# Altium integrated library Xilinx Virtex-II.IntLib: 158 symbols (part 48 of 59)
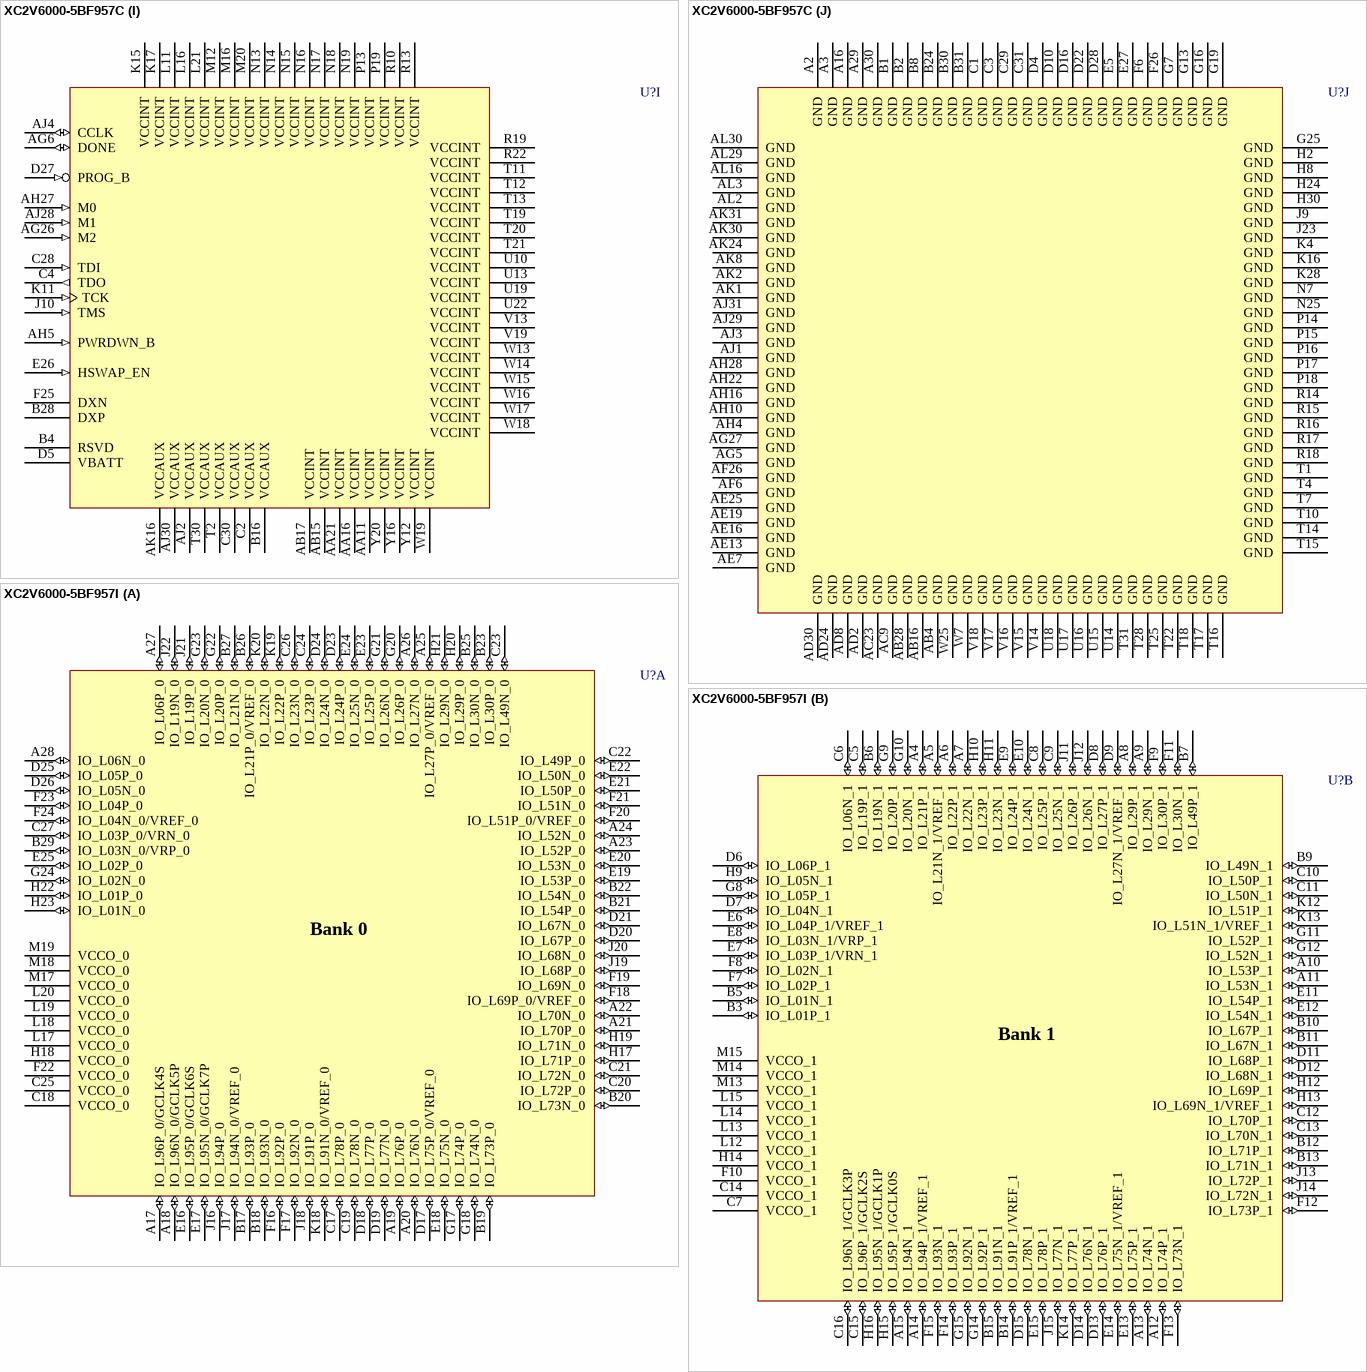
[diagram p446: symbols XC2V6000-5BF957C to XC2V6000-5BF957I]

## XC2V6000-5BF957C
designator U?
Virtex-II 1.5V FPGA, 957-Ball BGA, Commercial Grade; PackageDocument: ver1.0, Apr-2001; Published: 15-Apr-2002; DatasheetDocument: Mar-2004; PackageReference: BF957; Publisher: Altium Limited; Code_JEDEC: MS-034-BAU-1 (Depopulated)
footprint BF957 (957-Ball Plastic Flip-Chip Ball Grid Array (BF957))
3D model XC2V6000-BF957 (957-Ball Plastic Flip-Chip Ball Grid Array (BF957))
signal-integrity model XC2V6000_BF957 (Virtex-II)
part A pins: A17 IO_L96P_0/GCLK4S (io), A18 IO_L96N_0/GCLK5P (io), A19 IO_L76P_0 (io), A20 IO_L76N_0 (io), A21 IO_L70P_0 (io), A22 IO_L70N_0 (io), A23 IO_L52P_0 (io), A24 IO_L52N_0 (io), A25 IO_L27P_0/VREF_0 (io), A26 IO_L27N_0 (io), A27 IO_L06P_0 (io), A28 IO_L06N_0 (io), B17 IO_L93P_0 (io), B18 IO_L93N_0 (io), B19 IO_L73P_0 (io), B20 IO_L73N_0 (io), B21 IO_L54P_0 (io), B22 IO_L54N_0 (io), B23 IO_L30P_0 (io), B25 IO_L30N_0 (io), B26 IO_L21P_0/VREF_0 (io), B27 IO_L21N_0 (io), B29 IO_L03N_0/VRP_0 (io), C17 IO_L78P_0 (io), C18 VCCO_0 (power), C19 IO_L78N_0 (io), C20 IO_L72P_0 (io), C21 IO_L72N_0 (io), C22 IO_L49P_0 (io), C23 IO_L49N_0 (io), C24 IO_L23P_0 (io), C25 VCCO_0 (power), C26 IO_L23N_0 (io), C27 IO_L03P_0/VRN_0 (io), D17 IO_L75P_0/VREF_0 (io), D18 IO_L77P_0 (io), D19 IO_L77N_0 (io), D20 IO_L67P_0 (io), D21 IO_L67N_0 (io), D23 IO_L24P_0 (io), D24 IO_L24N_0 (io), D25 IO_L05P_0 (io), D26 IO_L05N_0 (io), E16 IO_L95P_0/GCLK6S (io), E17 IO_L95N_0/GCLK7P (io), E18 IO_L75N_0 (io), E19 IO_L53P_0 (io), E20 IO_L53N_0 (io), E21 IO_L50P_0 (io), E22 IO_L50N_0 (io), E23 IO_L25P_0 (io), E24 IO_L25N_0 (io), E25 IO_L02P_0 (io), F16 IO_L92P_0 (io), F17 IO_L92N_0 (io), F18 IO_L69P_0/VREF_0 (io), F19 IO_L69N_0 (io), F20 IO_L51P_0/VREF_0 (io), F21 IO_L51N_0 (io), F22 VCCO_0 (power), F23 IO_L04P_0 (io), F24 IO_L04N_0/VREF_0 (io), G17 IO_L74P_0 (io), G18 IO_L74N_0 (io), G20 IO_L26P_0 (io), G21 IO_L26N_0 (io), G22 IO_L20P_0 (io), G23 IO_L20N_0 (io), G24 IO_L02N_0 (io), H17 IO_L71P_0 (io), H18 VCCO_0 (power), H19 IO_L71N_0 (io), H20 IO_L29P_0 (io), H21 IO_L29N_0 (io), H22 IO_L01P_0 (io), H23 IO_L01N_0 (io), J16 IO_L94P_0 (io), J17 IO_L94N_0/VREF_0 (io), J18 IO_L91P_0 (io), J19 IO_L68P_0 (io), J20 IO_L68N_0 (io), J21 IO_L19P_0 (io), J22 IO_L19N_0 (io), K18 IO_L91N_0/VREF_0 (io), K19 IO_L22P_0 (io), K20 IO_L22N_0 (io), L17 VCCO_0 (power), L18 VCCO_0 (power), L19 VCCO_0 (power), L20 VCCO_0 (power), M17 VCCO_0 (power), M18 VCCO_0 (power), M19 VCCO_0 (power)
part B pins: A4 IO_L21P_1 (io), A5 IO_L21N_1/VREF_1 (io), A6 IO_L22P_1 (io), A7 IO_L22N_1 (io), A8 IO_L29P_1 (io), A9 IO_L29N_1 (io), A10 IO_L53P_1 (io), A11 IO_L53N_1 (io), A12 IO_L74P_1 (io), A13 IO_L74N_1 (io), A14 IO_L94P_1/VREF_1 (io), A15 IO_L94N_1 (io), B3 IO_L01P_1 (io), B5 IO_L01N_1 (io), B6 IO_L19N_1 (io), B7 IO_L49P_1 (io), B9 IO_L49N_1 (io), B10 IO_L67P_1 (io), B11 IO_L67N_1 (io), B12 IO_L71P_1 (io), B13 IO_L71N_1 (io), B14 IO_L91P_1/VREF_1 (io), B15 IO_L91N_1 (io), C5 IO_L19P_1 (io), C6 IO_L06N_1 (io), C7 VCCO_1 (power), C8 IO_L25P_1 (io), C9 IO_L25N_1 (io), C10 IO_L50P_1 (io), C11 IO_L50N_1 (io), C12 IO_L70P_1 (io), C13 IO_L70N_1 (io), C14 VCCO_1 (power), C15 IO_L96P_1/GCLK2S (io), C16 IO_L96N_1/GCLK3P (io), D6 IO_L06P_1 (io), D7 IO_L04N_1 (io), D8 IO_L27P_1 (io), D9 IO_L27N_1/VREF_1 (io), D11 IO_L68P_1 (io), D12 IO_L68N_1 (io), D13 IO_L76P_1 (io), D14 IO_L76N_1 (io), D15 IO_L78N_1 (io), E6 IO_L04P_1/VREF_1 (io), E7 IO_L03P_1/VRN_1 (io), E8 IO_L03N_1/VRP_1 (io), E9 IO_L24P_1 (io), E10 IO_L24N_1 (io), E11 IO_L54P_1 (io), E12 IO_L54N_1 (io), E13 IO_L75P_1 (io), E14 IO_L75N_1/VREF_1 (io), E15 IO_L78P_1 (io), F7 IO_L02P_1 (io), F8 IO_L02N_1 (io), F9 IO_L30P_1 (io), F10 VCCO_1 (power), F11 IO_L30N_1 (io), F12 IO_L73P_1 (io), F13 IO_L73N_1 (io), F14 IO_L93P_1 (io), F15 IO_L93N_1 (io), G8 IO_L05P_1 (io), G9 IO_L20P_1 (io), G10 IO_L20N_1 (io), G11 IO_L52P_1 (io), G12 IO_L52N_1 (io), G14 IO_L92P_1 (io), G15 IO_L92N_1 (io), H9 IO_L05N_1 (io), H10 IO_L23P_1 (io), H11 IO_L23N_1 (io), H12 IO_L69P_1 (io), H13 IO_L69N_1/VREF_1 (io), H14 VCCO_1 (power), H15 IO_L95P_1/GCLK0S (io), H16 IO_L95N_1/GCLK1P (io), J11 IO_L26P_1 (io), J12 IO_L26N_1 (io), J13 IO_L72P_1 (io), J14 IO_L72N_1 (io), J15 IO_L77N_1 (io), K12 IO_L51P_1 (io), K13 IO_L51N_1/VREF_1 (io), K14 IO_L77P_1 (io), L12 VCCO_1 (power), L13 VCCO_1 (power), L14 VCCO_1 (power), L15 VCCO_1 (power), M13 VCCO_1 (power), M14 VCCO_1 (power), M15 VCCO_1 (power)
part C pins: D1 IO_L21N_2 (io), D2 IO_L05N_2 (io), D3 IO_L03N_2 (io), E1 IO_L21P_2/VREF_2 (io), E2 IO_L23N_2 (io), E3 IO_L05P_2 (io), E4 IO_L03P_2/VREF_2 (io), F1 IO_L43N_2 (io), F2 IO_L23P_2 (io), F3 IO_L06P_2 (io), F4 IO_L06N_2 (io), F5 IO_L01N_2 (io), G1 IO_L43P_2 (io), G2 IO_L45N_2 (io), G3 VCCO_2 (power), G4 IO_L01P_2 (io), G5 IO_L22N_2 (io), G6 IO_L02N_2/VRP_2 (io), H1 IO_L49N_2 (io), H3 IO_L46N_2 (io), H4 IO_L24N_2 (io), H5 IO_L22P_2 (io), H6 IO_L02P_2/VRN_2 (io), H7 IO_L20N_2 (io), J1 IO_L49P_2 (io), J2 IO_L45P_2/VREF_2 (io), J3 IO_L46P_2 (io), J4 IO_L24P_2 (io), J5 IO_L48N_2 (io), J6 IO_L47N_2 (io), J7 IO_L27N_2 (io), J8 IO_L20P_2 (io), K1 IO_L70N_2 (io), K2 IO_L67N_2 (io), K3 IO_L52N_2 (io), K5 IO_L48P_2 (io), K6 VCCO_2 (power), K7 IO_L27P_2/VREF_2 (io), K8 IO_L25N_2 (io), K9 IO_L04P_2 (io), K10 IO_L04N_2 (io), L1 IO_L70P_2 (io), L2 IO_L67P_2 (io), L3 IO_L52P_2 (io), L4 IO_L69N_2 (io), L5 IO_L54N_2 (io), L6 IO_L47P_2 (io), L7 IO_L51N_2 (io), L8 IO_L25P_2 (io), L9 IO_L44N_2 (io), L10 IO_L19N_2 (io), M1 IO_L76N_2 (io), M2 IO_L75N_2 (io), M3 IO_L73N_2 (io), M4 IO_L69P_2/VREF_2 (io), M5 IO_L54P_2 (io), M6 IO_L68N_2 (io), M7 IO_L51P_2/VREF_2 (io), M8 IO_L53N_2 (io), M9 IO_L44P_2 (io), M10 IO_L19P_2 (io), M11 VCCO_2 (power), N1 IO_L76P_2 (io), N2 IO_L75P_2/VREF_2 (io), N3 IO_L73P_2 (io), N4 IO_L78N_2 (io), N5 IO_L72N_2 (io), N6 IO_L68P_2 (io), N8 IO_L53P_2 (io), N9 IO_L71N_2 (io), N10 IO_L50N_2 (io), N11 VCCO_2 (power), N12 VCCO_2 (power), P1 IO_L95N_2 (io), P2 IO_L93N_2 (io), P3 VCCO_2 (power), P4 IO_L78P_2 (io), P5 IO_L72P_2 (io), P6 IO_L92N_2 (io), P7 IO_L77N_2 (io), P8 VCCO_2 (power), P9 IO_L71P_2 (io), P10 IO_L50P_2 (io), P11 VCCO_2 (power), P12 VCCO_2 (power), R1 IO_L95P_2 (io), R2 IO_L93P_2/VREF_2 (io), R3 IO_L96P_2 (io), R4 IO_L96N_2 (io), R5 IO_L94N_2 (io), R6 IO_L92P_2 (io), R7 IO_L77P_2 (io), R8 IO_L74N_2 (io), R9 IO_L74P_2 (io), R11 VCCO_2 (power), R12 VCCO_2 (power), T5 IO_L94P_2 (io), T8 IO_L91N_2 (io), T9 IO_L91P_2 (io)
part D pins: AA1 IO_L68N_3 (io), AA2 IO_L53N_3 (io), AA3 IO_L50N_3 (io), AA4 IO_L52N_3 (io), AA5 IO_L72P_3 (io), AA6 IO_L54N_3 (io), AA7 IO_L67P_3 (io), AA8 IO_L45P_3 (io), AA9 IO_L23N_3 (io), AA10 IO_L27P_3 (io), AB1 IO_L68P_3 (io), AB2 IO_L53P_3 (io), AB3 IO_L50P_3 (io), AB5 IO_L49N_3 (io), AB6 VCCO_3 (power), AB7 IO_L43N_3 (io), AB8 IO_L20N_3 (io), AB9 IO_L23P_3 (io), AB10 IO_L05N_3 (io), AB11 IO_L05P_3 (io), AC1 IO_L47N_3 (io), AC2 IO_L44N_3 (io), AC3 IO_L46N_3 (io), AC4 IO_L52P_3 (io), AC5 IO_L49P_3 (io), AC6 IO_L54P_3 (io), AC7 IO_L43P_3 (io), AC8 IO_L20P_3 (io), AD1 IO_L47P_3 (io), AD3 IO_L46P_3 (io), AD4 IO_L22N_3 (io), AD5 IO_L21N_3/VREF_3 (io), AD6 IO_L03N_3/VREF_3 (io), AD7 IO_L03P_3 (io), AE1 IO_L25N_3 (io), AE2 IO_L44P_3 (io), AE3 VCCO_3 (power), AE4 IO_L22P_3 (io), AE5 IO_L21P_3 (io), AE6 IO_L02N_3/VRP_3 (io), AF1 IO_L25P_3 (io), AF2 IO_L24N_3 (io), AF3 IO_L04N_3 (io), AF4 IO_L06N_3 (io), AF5 IO_L02P_3/VRN_3 (io), AG1 IO_L19N_3 (io), AG2 IO_L24P_3 (io), AG3 IO_L04P_3 (io), AG4 IO_L06P_3 (io), AH1 IO_L19P_3 (io), AH2 IO_L01N_3 (io), AH3 IO_L01P_3 (io), T3 IO_L94N_3 (io), T6 IO_L96N_3 (io), U1 IO_L93N_3/VREF_3 (io), U2 IO_L91N_3 (io), U3 IO_L94P_3 (io), U4 IO_L77N_3 (io), U5 IO_L96P_3 (io), U6 IO_L95N_3 (io), U7 IO_L78N_3 (io), U8 IO_L92N_3 (io), U9 IO_L69N_3/VREF_3 (io), U11 VCCO_3 (power), U12 VCCO_3 (power), V1 IO_L93P_3 (io), V2 IO_L91P_3 (io), V3 VCCO_3 (power), V4 IO_L77P_3 (io), V5 IO_L75N_3/VREF_3 (io), V6 IO_L95P_3 (io), V7 IO_L78P_3 (io), V8 VCCO_3 (power), V9 IO_L69P_3 (io), V10 IO_L51N_3/VREF_3 (io), V11 VCCO_3 (power), V12 VCCO_3 (power), W1 IO_L76N_3 (io), W2 IO_L74N_3 (io), W3 IO_L71N_3 (io), W4 IO_L70N_3 (io), W5 IO_L75P_3 (io), W6 IO_L73N_3 (io), W8 IO_L92P_3 (io), W9 IO_L48N_3 (io), W10 IO_L51P_3 (io), W11 VCCO_3 (power), W12 VCCO_3 (power), Y1 IO_L76P_3 (io), Y2 IO_L74P_3 (io), Y3 IO_L71P_3 (io), Y4 IO_L70P_3 (io), Y5 IO_L72N_3 (io), Y6 IO_L73P_3 (io), Y7 IO_L67N_3 (io), Y8 IO_L45N_3/VREF_3 (io), Y9 IO_L48P_3 (io), Y10 IO_L27N_3/VREF_3 (io), Y11 VCCO_3 (power)
part E pins: AA12 VCCO_4 (power), AA13 VCCO_4 (power), AA14 VCCO_4 (power), AA15 VCCO_4 (power), AB12 IO_L22N_4 (io), AB13 IO_L22P_4 (io), AB14 IO_L76N_4 (io), AC10 IO_L19N_4 (io), AC11 IO_L19P_4 (io), AC12 IO_L67N_4 (io), AC13 IO_L67P_4 (io), AC14 IO_L76P_4 (io), AC15 IO_L91N_4/VREF_4 (io), AC16 IO_L91P_4 (io), AD9 IO_L01N_4/DOUT (io), AD10 IO_L01P_4/INIT_B (io), AD11 IO_L28N_4 (io), AD12 IO_L28P_4 (io), AD13 IO_L70N_4 (io), AD14 VCCO_4 (power), AD15 IO_L70P_4 (io), AE8 IO_L04N_4/VREF_4 (io), AE9 IO_L20N_4 (io), AE10 IO_L20P_4 (io), AE11 IO_L49N_4 (io), AE12 IO_L49P_4 (io), AE14 IO_L73N_4 (io), AE15 IO_L73P_4 (io), AF7 IO_L02N_4/D0 (io), AF8 IO_L04P_4 (io), AF9 IO_L26N_4 (io), AF10 VCCO_4 (power), AF11 IO_L26P_4 (io), AF12 IO_L52N_4 (io), AF13 IO_L52P_4 (io), AF14 IO_L74N_4 (io), AF15 IO_L74P_4 (io), AF16 IO_L94N_4/VREF_4 (io), AG7 IO_L02P_4/D1 (io), AG8 IO_L25N_4 (io), AG9 IO_L25P_4 (io), AG10 IO_L50N_4 (io), AG11 IO_L50P_4 (io), AG12 IO_L68N_4 (io), AG13 IO_L68P_4 (io), AG14 IO_L92N_4 (io), AG15 IO_L92P_4 (io), AG16 IO_L94P_4 (io), AH6 IO_L06N_4 (io), AH7 IO_L06P_4 (io), AH8 IO_L27N_4 (io), AH9 IO_L27P_4/VREF_4 (io), AH11 IO_L54N_4 (io), AH12 IO_L54P_4 (io), AH13 IO_L77N_4 (io), AH14 IO_L77P_4 (io), AH15 IO_L96N_4/GCLK1S (io), AJ5 IO_L03P_4/D3/ALT_VRN_4 (io), AJ6 IO_L23N_4 (io), AJ7 VCCO_4 (power), AJ8 IO_L23P_4 (io), AJ9 IO_L30N_4 (io), AJ10 IO_L30P_4 (io), AJ11 IO_L71N_4 (io), AJ12 IO_L71P_4 (io), AJ13 IO_L78N_4 (io), AJ14 VCCO_4 (power), AJ15 IO_L96P_4/GCLK0P (io), AK3 IO_L03N_4/D2/ALT_VRP_4 (io), AK4 IO_L05N_4/VRP_4 (io), AK5 IO_L05P_4/VRN_4 (io), AK6 IO_L24N_4 (io), AK7 IO_L24P_4 (io), AK9 IO_L53N_4 (io), AK10 IO_L53P_4 (io), AK11 IO_L72N_4 (io), AK12 IO_L72P_4 (io), AK13 IO_L78P_4 (io), AK14 IO_L93N_4 (io), AK15 IO_L93P_4 (io), AL4 IO_L21N_4 (io), AL5 IO_L21P_4/VREF_4 (io), AL6 IO_L29N_4 (io), AL7 IO_L29P_4 (io), AL8 IO_L51N_4 (io), AL9 IO_L51P_4/VREF_4 (io), AL10 IO_L69N_4 (io), AL11 IO_L69P_4/VREF_4 (io), AL12 IO_L75N_4 (io), AL13 IO_L75P_4/VREF_4 (io), AL14 IO_L95N_4/GCLK3S (io), AL15 IO_L95P_4/GCLK2P (io), Y13 VCCO_4 (power), Y14 VCCO_4 (power), Y15 VCCO_4 (power)
part F pins: AA17 VCCO_5 (power), AA18 VCCO_5 (power), AA19 VCCO_5 (power), AA20 VCCO_5 (power), AB18 IO_L77P_5 (io), AB19 IO_L53N_5 (io), AB20 IO_L53P_5 (io), AB21 IO_L20N_5 (io), AC17 IO_L77N_5 (io), AC18 IO_L74N_5 (io), AC19 IO_L74P_5 (io), AC20 IO_L29N_5 (io), AC21 IO_L29P_5 (io), AC22 IO_L20P_5 (io), AD16 IO_L95N_5/GCLK5S (io), AD17 IO_L95P_5/GCLK4P (io), AD18 VCCO_5 (power), AD19 IO_L68N_5 (io), AD20 IO_L68P_5 (io), AD21 IO_L26N_5 (io), AD22 IO_L26P_5 (io), AD23 IO_L05N_5/VRP_5 (io), AE17 IO_L92N_5 (io), AE18 IO_L92P_5 (io), AE20 IO_L50N_5 (io), AE21 IO_L50P_5 (io), AE22 IO_L23N_5 (io), AE23 IO_L23P_5 (io), AE24 IO_L05P_5/VRN_5 (io), AF17 IO_L93P_5 (io), AF18 IO_L71N_5 (io), AF19 IO_L71P_5 (io), AF20 IO_L51N_5/VREF_5 (io), AF21 IO_L51P_5 (io), AF22 VCCO_5 (power), AF23 IO_L03N_5/D4/ALT_VRP_5 (io), AF24 IO_L03P_5/D5/ALT_VRN_5 (io), AF25 IO_L02P_5/D7 (io), AG17 IO_L93N_5 (io), AG18 IO_L72N_5 (io), AG19 IO_L72P_5 (io), AG20 IO_L54N_5 (io), AG21 IO_L54P_5 (io), AG22 IO_L24N_5 (io), AG23 IO_L24P_5 (io), AG24 IO_L02N_5/D6 (io), AG25 IO_L21P_5 (io), AH17 IO_L96P_5/GCLK6P (io), AH18 IO_L76N_5 (io), AH19 IO_L76P_5 (io), AH20 IO_L69N_5/VREF_5 (io), AH21 IO_L69P_5 (io), AH23 IO_L25N_5 (io), AH24 IO_L25P_5 (io), AH25 IO_L21N_5/VREF_5 (io), AH26 IO_L04P_5/VREF_5 (io), AJ16 IO_L96N_5/GCLK7S (io), AJ17 IO_L91P_5/VREF_5 (io), AJ18 VCCO_5 (power), AJ19 IO_L73N_5 (io), AJ20 IO_L73P_5 (io), AJ21 IO_L52N_5 (io), AJ22 IO_L52P_5 (io), AJ23 IO_L30N_5 (io), AJ24 IO_L30P_5 (io), AJ25 VCCO_5 (power), AJ26 IO_L04N_5 (io), AJ27 IO_L06P_5 (io), AK17 IO_L91N_5 (io), AK18 IO_L78N_5 (io), AK19 IO_L78P_5 (io), AK20 IO_L70N_5 (io), AK21 IO_L70P_5 (io), AK22 IO_L49N_5 (io), AK23 IO_L49P_5 (io), AK25 IO_L22N_5 (io), AK26 IO_L22P_5 (io), AK27 IO_L06N_5 (io), AK28 IO_L01N_5/RDWR_B (io), AK29 IO_L01P_5/CS_B (io), AL17 IO_L94N_5 (io), AL18 IO_L94P_5/VREF_5 (io), AL19 IO_L75N_5/VREF_5 (io), AL20 IO_L75P_5 (io), AL21 IO_L67N_5 (io), AL22 IO_L67P_5 (io), AL23 IO_L28N_5 (io), AL24 IO_L28P_5 (io), AL25 IO_L27N_5/VREF_5 (io), AL26 IO_L27P_5 (io), AL27 IO_L19N_5 (io), AL28 IO_L19P_5 (io), Y17 VCCO_5 (power), Y18 VCCO_5 (power), Y19 VCCO_5 (power)
part G pins: AA22 IO_L19P_6 (io), AA23 IO_L44P_6 (io), AA24 IO_L25N_6 (io), AA25 IO_L48P_6 (io), AA26 IO_L51P_6 (io), AA27 IO_L50N_6 (io), AA28 IO_L46N_6 (io), AA29 IO_L70P_6 (io), AA30 IO_L67N_6 (io), AA31 IO_L69N_6/VREF_6 (io), AB22 IO_L04P_6 (io), AB23 IO_L04N_6 (io), AB24 IO_L25P_6 (io), AB25 IO_L27N_6/VREF_6 (io), AB26 VCCO_6 (power), AB27 IO_L50P_6 (io), AB29 IO_L49N_6 (io), AB30 IO_L67P_6 (io), AB31 IO_L69P_6 (io), AC24 IO_L20N_6 (io), AC25 IO_L27P_6 (io), AC26 IO_L22N_6 (io), AC27 IO_L47N_6 (io), AC28 IO_L46P_6 (io), AC29 IO_L49P_6 (io), AC30 IO_L45N_6/VREF_6 (io), AC31 IO_L52N_6 (io), AD25 IO_L20P_6 (io), AD26 IO_L22P_6 (io), AD27 IO_L47P_6 (io), AD28 IO_L24N_6 (io), AD29 IO_L23N_6 (io), AD31 IO_L52P_6 (io), AE26 IO_L02P_6/VRN_6 (io), AE27 IO_L02N_6/VRP_6 (io), AE28 IO_L24P_6 (io), AE29 VCCO_6 (power), AE30 IO_L45P_6 (io), AE31 IO_L43N_6 (io), AF27 IO_L01P_6 (io), AF28 IO_L01N_6 (io), AF29 IO_L23P_6 (io), AF30 IO_L21N_6/VREF_6 (io), AF31 IO_L43P_6 (io), AG28 IO_L05P_6 (io), AG29 IO_L05N_6 (io), AG30 IO_L21P_6 (io), AG31 IO_L06N_6 (io), AH29 IO_L03P_6 (io), AH30 IO_L03N_6/VREF_6 (io), AH31 IO_L06P_6 (io), T23 IO_L91N_6 (io), T24 IO_L94N_6 (io), T26 IO_L92N_6 (io), U20 VCCO_6 (power), U21 VCCO_6 (power), U23 IO_L91P_6 (io), U24 IO_L94P_6 (io), U25 IO_L72N_6 (io), U26 IO_L92P_6 (io), U27 IO_L77N_6 (io), U28 IO_L93N_6/VREF_6 (io), U29 IO_L78N_6 (io), U30 IO_L95N_6 (io), U31 IO_L96N_6 (io), V20 VCCO_6 (power), V21 VCCO_6 (power), V22 IO_L53N_6 (io), V23 IO_L74N_6 (io), V24 VCCO_6 (power), V25 IO_L72P_6 (io), V26 IO_L68N_6 (io), V27 IO_L77P_6 (io), V28 IO_L93P_6 (io), V29 VCCO_6 (power), V30 IO_L95P_6 (io), V31 IO_L96P_6 (io), W20 VCCO_6 (power), W21 VCCO_6 (power), W22 IO_L53P_6 (io), W23 IO_L74P_6 (io), W24 IO_L71N_6 (io), W26 IO_L68P_6 (io), W27 IO_L54N_6 (io), W28 IO_L73N_6 (io), W29 IO_L78P_6 (io), W30 IO_L75N_6/VREF_6 (io), W31 IO_L76N_6 (io), Y21 VCCO_6 (power), Y22 IO_L19N_6 (io), Y23 IO_L44N_6 (io), Y24 IO_L71P_6 (io), Y25 IO_L48N_6 (io), Y26 IO_L51N_6/VREF_6 (io), Y27 IO_L54P_6 (io), Y28 IO_L73P_6 (io), Y29 IO_L70N_6 (io), Y30 IO_L75P_6 (io), Y31 IO_L76P_6 (io)
part H pins: D29 IO_L01N_7 (io), D30 IO_L01P_7 (io), D31 IO_L19N_7 (io), E28 IO_L06N_7 (io), E29 IO_L04N_7 (io), E30 IO_L24N_7 (io), E31 IO_L19P_7 (io), F27 IO_L02N_7/VRP_7 (io), F28 IO_L06P_7 (io), F29 IO_L04P_7 (io), F30 IO_L24P_7 (io), F31 IO_L25N_7 (io), G26 IO_L02P_7/VRN_7 (io), G27 IO_L21N_7 (io), G28 IO_L22N_7 (io), G29 VCCO_7 (power), G30 IO_L44N_7 (io), G31 IO_L25P_7 (io), H25 IO_L03N_7 (io), H26 IO_L03P_7/VREF_7 (io), H27 IO_L21P_7/VREF_7 (io), H28 IO_L22P_7 (io), H29 IO_L46N_7 (io), H31 IO_L47N_7 (io), J24 IO_L20N_7 (io), J25 IO_L23N_7 (io), J26 IO_L48N_7 (io), J27 IO_L43N_7 (io), J28 IO_L52N_7 (io), J29 IO_L46P_7 (io), J30 IO_L44P_7 (io), J31 IO_L47P_7 (io), K21 IO_L05N_7 (io), K22 IO_L05P_7 (io), K23 IO_L27N_7 (io), K24 IO_L20P_7 (io), K25 IO_L23P_7 (io), K26 VCCO_7 (power), K27 IO_L43P_7 (io), K29 IO_L50N_7 (io), K30 IO_L53N_7 (io), K31 IO_L68N_7 (io), L22 IO_L45N_7 (io), L23 IO_L27P_7/VREF_7 (io), L24 IO_L51N_7 (io), L25 IO_L49N_7 (io), L26 IO_L48P_7 (io), L27 IO_L67N_7 (io), L28 IO_L52P_7 (io), L29 IO_L50P_7 (io), L30 IO_L53P_7 (io), L31 IO_L68P_7 (io), M21 VCCO_7 (power), M22 IO_L45P_7/VREF_7 (io), M23 IO_L54N_7 (io), M24 IO_L51P_7/VREF_7 (io), M25 IO_L49P_7 (io), M26 IO_L69N_7 (io), M27 IO_L67P_7 (io), M28 IO_L70N_7 (io), M29 IO_L71N_7 (io), M30 IO_L74N_7 (io), M31 IO_L76N_7 (io), N20 VCCO_7 (power), N21 VCCO_7 (power), N22 IO_L72N_7 (io), N23 IO_L54P_7 (io), N24 IO_L95N_7 (io), N26 IO_L69P_7/VREF_7 (io), N27 IO_L73N_7 (io), N28 IO_L70P_7 (io), N29 IO_L71P_7 (io), N30 IO_L74P_7 (io), N31 IO_L76P_7 (io), P20 VCCO_7 (power), P21 VCCO_7 (power), P22 IO_L72P_7 (io), P23 IO_L75N_7 (io), P24 VCCO_7 (power), P25 IO_L78N_7 (io), P26 IO_L92N_7 (io), P27 IO_L73P_7 (io), P28 IO_L77N_7 (io), P29 VCCO_7 (power), P30 IO_L91N_7 (io), P31 IO_L93N_7 (io), R20 VCCO_7 (power), R21 VCCO_7 (power), R23 IO_L75P_7/VREF_7 (io), R24 IO_L95P_7 (io), R25 IO_L78P_7 (io), R26 IO_L92P_7 (io), R27 IO_L96N_7 (io), R28 IO_L77P_7 (io), R29 IO_L94N_7 (io), R30 IO_L91P_7 (io), R31 IO_L93P_7/VREF_7 (io), T27 IO_L96P_7 (io), T29 IO_L94P_7 (io)
part I pins: AA11 VCCINT (power), AA16 VCCINT (power), AA21 VCCINT (power), AB15 VCCINT (power), AB17 VCCINT (power), AG6 DONE (io), AG26 M2 (in), AH5 PWRDWN_B (in), AH27 M0 (in), AJ2 VCCAUX (power), AJ4 CCLK (io), AJ28 M1 (in), AJ30 VCCAUX (power), AK16 VCCAUX (power), B4 RSVD, B16 VCCAUX (power), B28 DXP, C2 VCCAUX (power), C4 TDO (out), C28 TDI (in), C30 VCCAUX (power), D5 VBATT (power), D27 PROG_B (in), E26 HSWAP_EN (in), F25 DXN, J10 TMS (in), K11 TCK (in), K15 VCCINT (power), K17 VCCINT (power), L11 VCCINT (power), L16 VCCINT (power), L21 VCCINT (power), M12 VCCINT (power), M16 VCCINT (power), M20 VCCINT (power), N13 VCCINT (power), N14 VCCINT (power), N15 VCCINT (power), N16 VCCINT (power), N17 VCCINT (power), N18 VCCINT (power), N19 VCCINT (power), P13 VCCINT (power), P19 VCCINT (power), R10 VCCINT (power), R13 VCCINT (power), R19 VCCINT (power), R22 VCCINT (power), T2 VCCAUX (power), T11 VCCINT (power), T12 VCCINT (power), T13 VCCINT (power), T19 VCCINT (power), T20 VCCINT (power), T21 VCCINT (power), T30 VCCAUX (power), U10 VCCINT (power), U13 VCCINT (power), U19 VCCINT (power), U22 VCCINT (power), V13 VCCINT (power), V19 VCCINT (power), W13 VCCINT (power), W14 VCCINT (power), W15 VCCINT (power), W16 VCCINT (power), W17 VCCINT (power), W18 VCCINT (power), W19 VCCINT (power), Y12 VCCINT (power), Y16 VCCINT (power), Y20 VCCINT (power)
part J pins: A2 GND (power), A3 GND (power), A16 GND (power), A29 GND (power), A30 GND (power), AB4 GND (power), AB16 GND (power), AB28 GND (power), AC9 GND (power), AC23 GND (power), AD2 GND (power), AD8 GND (power), AD24 GND (power), AD30 GND (power), AE7 GND (power), AE13 GND (power), AE16 GND (power), AE19 GND (power), AE25 GND (power), AF6 GND (power), AF26 GND (power), AG5 GND (power), AG27 GND (power), AH4 GND (power), AH10 GND (power), AH16 GND (power), AH22 GND (power), AH28 GND (power), AJ1 GND (power), AJ3 GND (power), AJ29 GND (power), AJ31 GND (power), AK1 GND (power), AK2 GND (power), AK8 GND (power), AK24 GND (power), AK30 GND (power), AK31 GND (power), AL2 GND (power), AL3 GND (power), AL16 GND (power), AL29 GND (power), AL30 GND (power), B1 GND (power), B2 GND (power), B8 GND (power), B24 GND (power), B30 GND (power), B31 GND (power), C1 GND (power), C3 GND (power), C29 GND (power), C31 GND (power), D4 GND (power), D10 GND (power), D16 GND (power), D22 GND (power), D28 GND (power), E5 GND (power), E27 GND (power), F6 GND (power), F26 GND (power), G7 GND (power), G13 GND (power), G16 GND (power), G19 GND (power), G25 GND (power), H2 GND (power), H8 GND (power), H24 GND (power), H30 GND (power), J9 GND (power), J23 GND (power), K4 GND (power), K16 GND (power), K28 GND (power), N7 GND (power), N25 GND (power), P14 GND (power), P15 GND (power), P16 GND (power), P17 GND (power), P18 GND (power), R14 GND (power), R15 GND (power), R16 GND (power), R17 GND (power), R18 GND (power), T1 GND (power), T4 GND (power), T7 GND (power), T10 GND (power), T14 GND (power), T15 GND (power), T16 GND (power), T17 GND (power), T18 GND (power), T22 GND (power), T25 GND (power), T28 GND (power), T31 GND (power), U14 GND (power), U15 GND (power), U16 GND (power), U17 GND (power), U18 GND (power), V14 GND (power), V15 GND (power), V16 GND (power), V17 GND (power), V18 GND (power), W7 GND (power), W25 GND (power)
part A text: Bank 0
part B text: Bank 1
part C text: Bank 2
part D text: Bank 3
part E text: Bank 4
part F text: Bank 5
part G text: Bank 6
part H text: Bank 7

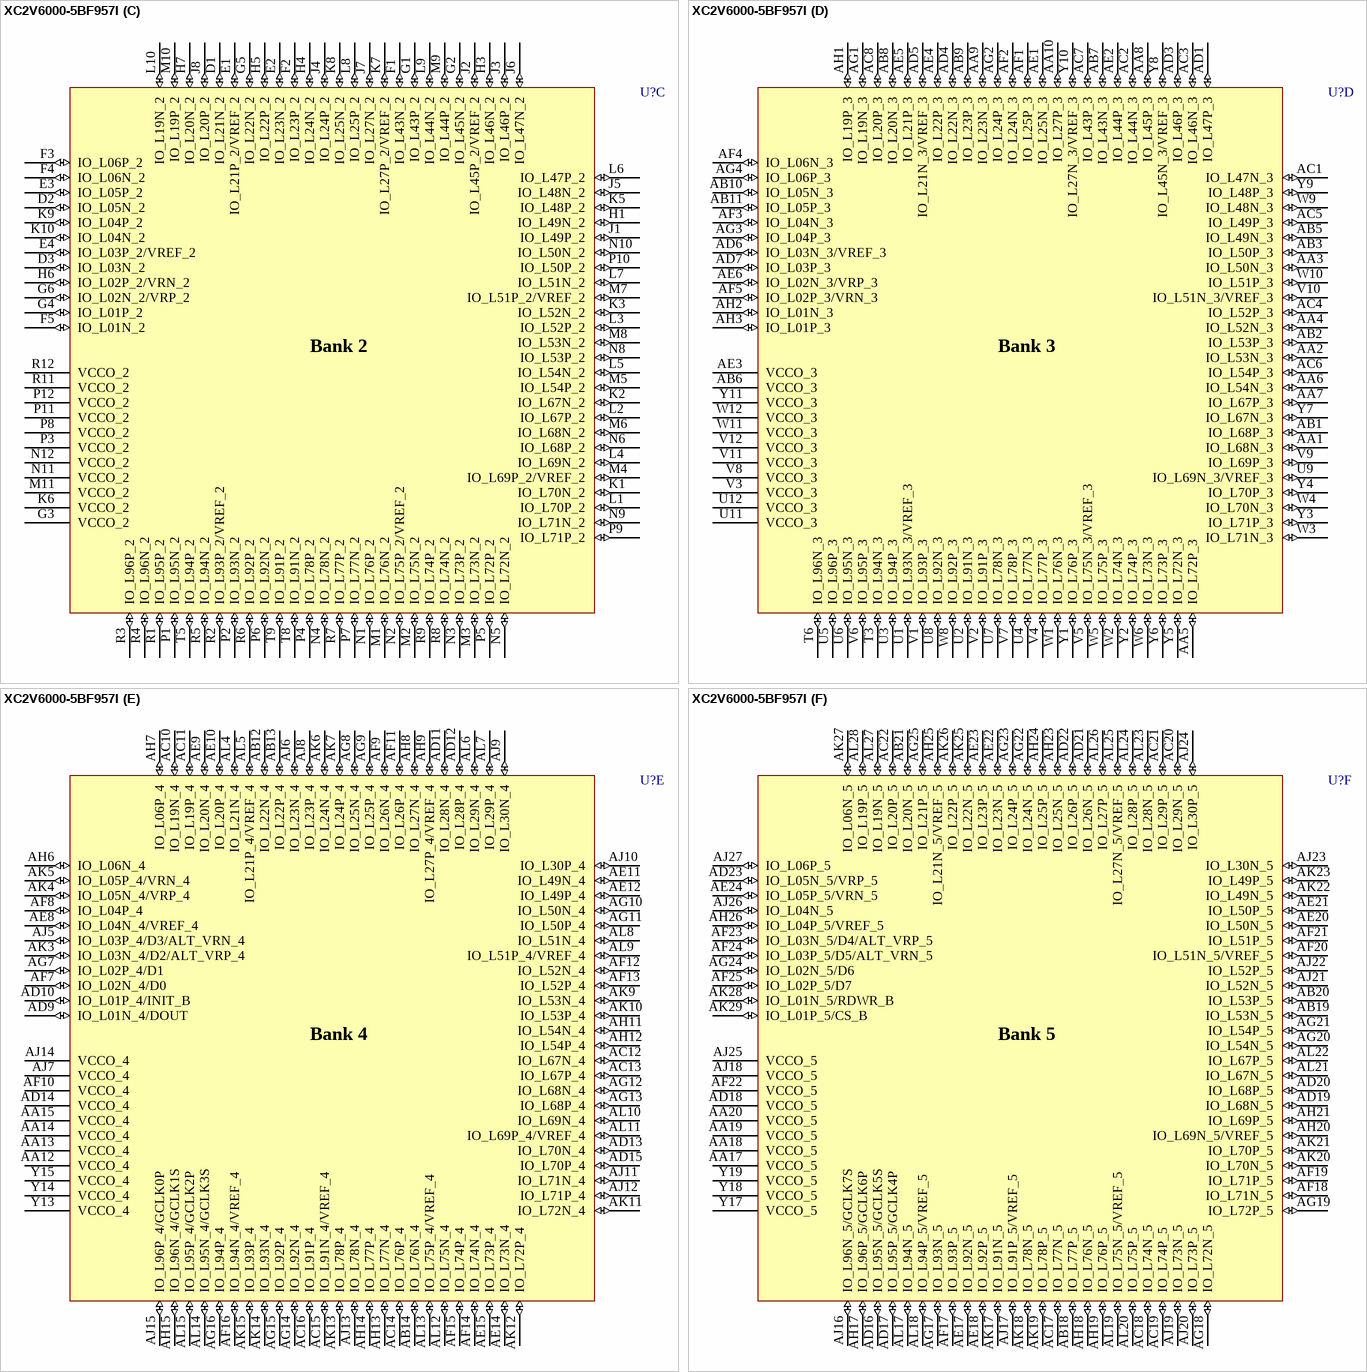
[diagram p396: symbol XC2V6000-5BF957I]

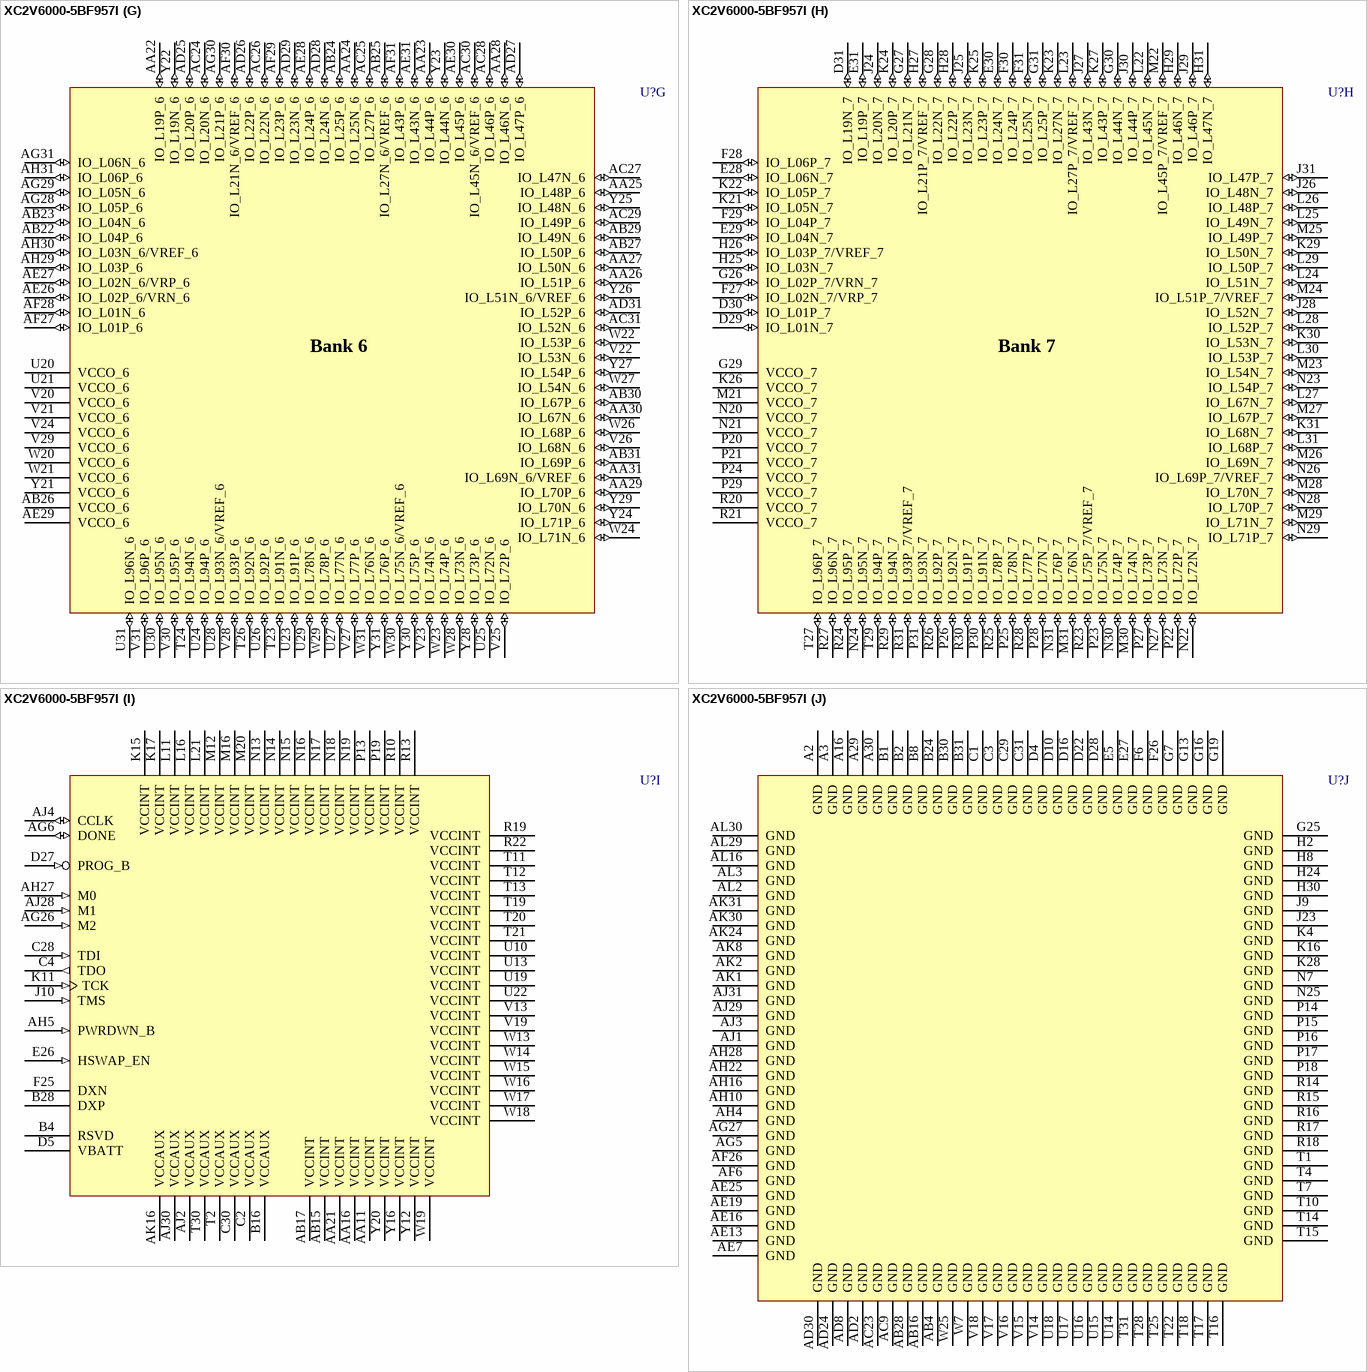
[diagram p397: symbol XC2V6000-5BF957I]

## XC2V6000-5BF957I
designator U?
Virtex-II 1.5V FPGA, 957-Ball BGA, Industrial Grade; PackageDocument: ver1.0, Apr-2001; Published: 15-Apr-2002; DatasheetDocument: Mar-2004; PackageReference: BF957; Publisher: Altium Limited; Code_JEDEC: MS-034-BAU-1 (Depopulated)
footprint BF957 (957-Ball Plastic Flip-Chip Ball Grid Array (BF957))
3D model XC2V6000-BF957 (957-Ball Plastic Flip-Chip Ball Grid Array (BF957))
signal-integrity model XC2V6000_BF957 (Virtex-II)
part A pins: A17 IO_L96P_0/GCLK4S (io), A18 IO_L96N_0/GCLK5P (io), A19 IO_L76P_0 (io), A20 IO_L76N_0 (io), A21 IO_L70P_0 (io), A22 IO_L70N_0 (io), A23 IO_L52P_0 (io), A24 IO_L52N_0 (io), A25 IO_L27P_0/VREF_0 (io), A26 IO_L27N_0 (io), A27 IO_L06P_0 (io), A28 IO_L06N_0 (io), B17 IO_L93P_0 (io), B18 IO_L93N_0 (io), B19 IO_L73P_0 (io), B20 IO_L73N_0 (io), B21 IO_L54P_0 (io), B22 IO_L54N_0 (io), B23 IO_L30P_0 (io), B25 IO_L30N_0 (io), B26 IO_L21P_0/VREF_0 (io), B27 IO_L21N_0 (io), B29 IO_L03N_0/VRP_0 (io), C17 IO_L78P_0 (io), C18 VCCO_0 (power), C19 IO_L78N_0 (io), C20 IO_L72P_0 (io), C21 IO_L72N_0 (io), C22 IO_L49P_0 (io), C23 IO_L49N_0 (io), C24 IO_L23P_0 (io), C25 VCCO_0 (power), C26 IO_L23N_0 (io), C27 IO_L03P_0/VRN_0 (io), D17 IO_L75P_0/VREF_0 (io), D18 IO_L77P_0 (io), D19 IO_L77N_0 (io), D20 IO_L67P_0 (io), D21 IO_L67N_0 (io), D23 IO_L24P_0 (io), D24 IO_L24N_0 (io), D25 IO_L05P_0 (io), D26 IO_L05N_0 (io), E16 IO_L95P_0/GCLK6S (io), E17 IO_L95N_0/GCLK7P (io), E18 IO_L75N_0 (io), E19 IO_L53P_0 (io), E20 IO_L53N_0 (io), E21 IO_L50P_0 (io), E22 IO_L50N_0 (io), E23 IO_L25P_0 (io), E24 IO_L25N_0 (io), E25 IO_L02P_0 (io), F16 IO_L92P_0 (io), F17 IO_L92N_0 (io), F18 IO_L69P_0/VREF_0 (io), F19 IO_L69N_0 (io), F20 IO_L51P_0/VREF_0 (io), F21 IO_L51N_0 (io), F22 VCCO_0 (power), F23 IO_L04P_0 (io), F24 IO_L04N_0/VREF_0 (io), G17 IO_L74P_0 (io), G18 IO_L74N_0 (io), G20 IO_L26P_0 (io), G21 IO_L26N_0 (io), G22 IO_L20P_0 (io), G23 IO_L20N_0 (io), G24 IO_L02N_0 (io), H17 IO_L71P_0 (io), H18 VCCO_0 (power), H19 IO_L71N_0 (io), H20 IO_L29P_0 (io), H21 IO_L29N_0 (io), H22 IO_L01P_0 (io), H23 IO_L01N_0 (io), J16 IO_L94P_0 (io), J17 IO_L94N_0/VREF_0 (io), J18 IO_L91P_0 (io), J19 IO_L68P_0 (io), J20 IO_L68N_0 (io), J21 IO_L19P_0 (io), J22 IO_L19N_0 (io), K18 IO_L91N_0/VREF_0 (io), K19 IO_L22P_0 (io), K20 IO_L22N_0 (io), L17 VCCO_0 (power), L18 VCCO_0 (power), L19 VCCO_0 (power), L20 VCCO_0 (power), M17 VCCO_0 (power), M18 VCCO_0 (power), M19 VCCO_0 (power)
part B pins: A4 IO_L21P_1 (io), A5 IO_L21N_1/VREF_1 (io), A6 IO_L22P_1 (io), A7 IO_L22N_1 (io), A8 IO_L29P_1 (io), A9 IO_L29N_1 (io), A10 IO_L53P_1 (io), A11 IO_L53N_1 (io), A12 IO_L74P_1 (io), A13 IO_L74N_1 (io), A14 IO_L94P_1/VREF_1 (io), A15 IO_L94N_1 (io), B3 IO_L01P_1 (io), B5 IO_L01N_1 (io), B6 IO_L19N_1 (io), B7 IO_L49P_1 (io), B9 IO_L49N_1 (io), B10 IO_L67P_1 (io), B11 IO_L67N_1 (io), B12 IO_L71P_1 (io), B13 IO_L71N_1 (io), B14 IO_L91P_1/VREF_1 (io), B15 IO_L91N_1 (io), C5 IO_L19P_1 (io), C6 IO_L06N_1 (io), C7 VCCO_1 (power), C8 IO_L25P_1 (io), C9 IO_L25N_1 (io), C10 IO_L50P_1 (io), C11 IO_L50N_1 (io), C12 IO_L70P_1 (io), C13 IO_L70N_1 (io), C14 VCCO_1 (power), C15 IO_L96P_1/GCLK2S (io), C16 IO_L96N_1/GCLK3P (io), D6 IO_L06P_1 (io), D7 IO_L04N_1 (io), D8 IO_L27P_1 (io), D9 IO_L27N_1/VREF_1 (io), D11 IO_L68P_1 (io), D12 IO_L68N_1 (io), D13 IO_L76P_1 (io), D14 IO_L76N_1 (io), D15 IO_L78N_1 (io), E6 IO_L04P_1/VREF_1 (io), E7 IO_L03P_1/VRN_1 (io), E8 IO_L03N_1/VRP_1 (io), E9 IO_L24P_1 (io), E10 IO_L24N_1 (io), E11 IO_L54P_1 (io), E12 IO_L54N_1 (io), E13 IO_L75P_1 (io), E14 IO_L75N_1/VREF_1 (io), E15 IO_L78P_1 (io), F7 IO_L02P_1 (io), F8 IO_L02N_1 (io), F9 IO_L30P_1 (io), F10 VCCO_1 (power), F11 IO_L30N_1 (io), F12 IO_L73P_1 (io), F13 IO_L73N_1 (io), F14 IO_L93P_1 (io), F15 IO_L93N_1 (io), G8 IO_L05P_1 (io), G9 IO_L20P_1 (io), G10 IO_L20N_1 (io), G11 IO_L52P_1 (io), G12 IO_L52N_1 (io), G14 IO_L92P_1 (io), G15 IO_L92N_1 (io), H9 IO_L05N_1 (io), H10 IO_L23P_1 (io), H11 IO_L23N_1 (io), H12 IO_L69P_1 (io), H13 IO_L69N_1/VREF_1 (io), H14 VCCO_1 (power), H15 IO_L95P_1/GCLK0S (io), H16 IO_L95N_1/GCLK1P (io), J11 IO_L26P_1 (io), J12 IO_L26N_1 (io), J13 IO_L72P_1 (io), J14 IO_L72N_1 (io), J15 IO_L77N_1 (io), K12 IO_L51P_1 (io), K13 IO_L51N_1/VREF_1 (io), K14 IO_L77P_1 (io), L12 VCCO_1 (power), L13 VCCO_1 (power), L14 VCCO_1 (power), L15 VCCO_1 (power), M13 VCCO_1 (power), M14 VCCO_1 (power), M15 VCCO_1 (power)
part C pins: D1 IO_L21N_2 (io), D2 IO_L05N_2 (io), D3 IO_L03N_2 (io), E1 IO_L21P_2/VREF_2 (io), E2 IO_L23N_2 (io), E3 IO_L05P_2 (io), E4 IO_L03P_2/VREF_2 (io), F1 IO_L43N_2 (io), F2 IO_L23P_2 (io), F3 IO_L06P_2 (io), F4 IO_L06N_2 (io), F5 IO_L01N_2 (io), G1 IO_L43P_2 (io), G2 IO_L45N_2 (io), G3 VCCO_2 (power), G4 IO_L01P_2 (io), G5 IO_L22N_2 (io), G6 IO_L02N_2/VRP_2 (io), H1 IO_L49N_2 (io), H3 IO_L46N_2 (io), H4 IO_L24N_2 (io), H5 IO_L22P_2 (io), H6 IO_L02P_2/VRN_2 (io), H7 IO_L20N_2 (io), J1 IO_L49P_2 (io), J2 IO_L45P_2/VREF_2 (io), J3 IO_L46P_2 (io), J4 IO_L24P_2 (io), J5 IO_L48N_2 (io), J6 IO_L47N_2 (io), J7 IO_L27N_2 (io), J8 IO_L20P_2 (io), K1 IO_L70N_2 (io), K2 IO_L67N_2 (io), K3 IO_L52N_2 (io), K5 IO_L48P_2 (io), K6 VCCO_2 (power), K7 IO_L27P_2/VREF_2 (io), K8 IO_L25N_2 (io), K9 IO_L04P_2 (io), K10 IO_L04N_2 (io), L1 IO_L70P_2 (io), L2 IO_L67P_2 (io), L3 IO_L52P_2 (io), L4 IO_L69N_2 (io), L5 IO_L54N_2 (io), L6 IO_L47P_2 (io), L7 IO_L51N_2 (io), L8 IO_L25P_2 (io), L9 IO_L44N_2 (io), L10 IO_L19N_2 (io), M1 IO_L76N_2 (io), M2 IO_L75N_2 (io), M3 IO_L73N_2 (io), M4 IO_L69P_2/VREF_2 (io), M5 IO_L54P_2 (io), M6 IO_L68N_2 (io), M7 IO_L51P_2/VREF_2 (io), M8 IO_L53N_2 (io), M9 IO_L44P_2 (io), M10 IO_L19P_2 (io), M11 VCCO_2 (power), N1 IO_L76P_2 (io), N2 IO_L75P_2/VREF_2 (io), N3 IO_L73P_2 (io), N4 IO_L78N_2 (io), N5 IO_L72N_2 (io), N6 IO_L68P_2 (io), N8 IO_L53P_2 (io), N9 IO_L71N_2 (io), N10 IO_L50N_2 (io), N11 VCCO_2 (power), N12 VCCO_2 (power), P1 IO_L95N_2 (io), P2 IO_L93N_2 (io), P3 VCCO_2 (power), P4 IO_L78P_2 (io), P5 IO_L72P_2 (io), P6 IO_L92N_2 (io), P7 IO_L77N_2 (io), P8 VCCO_2 (power), P9 IO_L71P_2 (io), P10 IO_L50P_2 (io), P11 VCCO_2 (power), P12 VCCO_2 (power), R1 IO_L95P_2 (io), R2 IO_L93P_2/VREF_2 (io), R3 IO_L96P_2 (io), R4 IO_L96N_2 (io), R5 IO_L94N_2 (io), R6 IO_L92P_2 (io), R7 IO_L77P_2 (io), R8 IO_L74N_2 (io), R9 IO_L74P_2 (io), R11 VCCO_2 (power), R12 VCCO_2 (power), T5 IO_L94P_2 (io), T8 IO_L91N_2 (io), T9 IO_L91P_2 (io)
part D pins: AA1 IO_L68N_3 (io), AA2 IO_L53N_3 (io), AA3 IO_L50N_3 (io), AA4 IO_L52N_3 (io), AA5 IO_L72P_3 (io), AA6 IO_L54N_3 (io), AA7 IO_L67P_3 (io), AA8 IO_L45P_3 (io), AA9 IO_L23N_3 (io), AA10 IO_L27P_3 (io), AB1 IO_L68P_3 (io), AB2 IO_L53P_3 (io), AB3 IO_L50P_3 (io), AB5 IO_L49N_3 (io), AB6 VCCO_3 (power), AB7 IO_L43N_3 (io), AB8 IO_L20N_3 (io), AB9 IO_L23P_3 (io), AB10 IO_L05N_3 (io), AB11 IO_L05P_3 (io), AC1 IO_L47N_3 (io), AC2 IO_L44N_3 (io), AC3 IO_L46N_3 (io), AC4 IO_L52P_3 (io), AC5 IO_L49P_3 (io), AC6 IO_L54P_3 (io), AC7 IO_L43P_3 (io), AC8 IO_L20P_3 (io), AD1 IO_L47P_3 (io), AD3 IO_L46P_3 (io), AD4 IO_L22N_3 (io), AD5 IO_L21N_3/VREF_3 (io), AD6 IO_L03N_3/VREF_3 (io), AD7 IO_L03P_3 (io), AE1 IO_L25N_3 (io), AE2 IO_L44P_3 (io), AE3 VCCO_3 (power), AE4 IO_L22P_3 (io), AE5 IO_L21P_3 (io), AE6 IO_L02N_3/VRP_3 (io), AF1 IO_L25P_3 (io), AF2 IO_L24N_3 (io), AF3 IO_L04N_3 (io), AF4 IO_L06N_3 (io), AF5 IO_L02P_3/VRN_3 (io), AG1 IO_L19N_3 (io), AG2 IO_L24P_3 (io), AG3 IO_L04P_3 (io), AG4 IO_L06P_3 (io), AH1 IO_L19P_3 (io), AH2 IO_L01N_3 (io), AH3 IO_L01P_3 (io), T3 IO_L94N_3 (io), T6 IO_L96N_3 (io), U1 IO_L93N_3/VREF_3 (io), U2 IO_L91N_3 (io), U3 IO_L94P_3 (io), U4 IO_L77N_3 (io), U5 IO_L96P_3 (io), U6 IO_L95N_3 (io), U7 IO_L78N_3 (io), U8 IO_L92N_3 (io), U9 IO_L69N_3/VREF_3 (io), U11 VCCO_3 (power), U12 VCCO_3 (power), V1 IO_L93P_3 (io), V2 IO_L91P_3 (io), V3 VCCO_3 (power), V4 IO_L77P_3 (io), V5 IO_L75N_3/VREF_3 (io), V6 IO_L95P_3 (io), V7 IO_L78P_3 (io), V8 VCCO_3 (power), V9 IO_L69P_3 (io), V10 IO_L51N_3/VREF_3 (io), V11 VCCO_3 (power), V12 VCCO_3 (power), W1 IO_L76N_3 (io), W2 IO_L74N_3 (io), W3 IO_L71N_3 (io), W4 IO_L70N_3 (io), W5 IO_L75P_3 (io), W6 IO_L73N_3 (io), W8 IO_L92P_3 (io), W9 IO_L48N_3 (io), W10 IO_L51P_3 (io), W11 VCCO_3 (power), W12 VCCO_3 (power), Y1 IO_L76P_3 (io), Y2 IO_L74P_3 (io), Y3 IO_L71P_3 (io), Y4 IO_L70P_3 (io), Y5 IO_L72N_3 (io), Y6 IO_L73P_3 (io), Y7 IO_L67N_3 (io), Y8 IO_L45N_3/VREF_3 (io), Y9 IO_L48P_3 (io), Y10 IO_L27N_3/VREF_3 (io), Y11 VCCO_3 (power)
part E pins: AA12 VCCO_4 (power), AA13 VCCO_4 (power), AA14 VCCO_4 (power), AA15 VCCO_4 (power), AB12 IO_L22N_4 (io), AB13 IO_L22P_4 (io), AB14 IO_L76N_4 (io), AC10 IO_L19N_4 (io), AC11 IO_L19P_4 (io), AC12 IO_L67N_4 (io), AC13 IO_L67P_4 (io), AC14 IO_L76P_4 (io), AC15 IO_L91N_4/VREF_4 (io), AC16 IO_L91P_4 (io), AD9 IO_L01N_4/DOUT (io), AD10 IO_L01P_4/INIT_B (io), AD11 IO_L28N_4 (io), AD12 IO_L28P_4 (io), AD13 IO_L70N_4 (io), AD14 VCCO_4 (power), AD15 IO_L70P_4 (io), AE8 IO_L04N_4/VREF_4 (io), AE9 IO_L20N_4 (io), AE10 IO_L20P_4 (io), AE11 IO_L49N_4 (io), AE12 IO_L49P_4 (io), AE14 IO_L73N_4 (io), AE15 IO_L73P_4 (io), AF7 IO_L02N_4/D0 (io), AF8 IO_L04P_4 (io), AF9 IO_L26N_4 (io), AF10 VCCO_4 (power), AF11 IO_L26P_4 (io), AF12 IO_L52N_4 (io), AF13 IO_L52P_4 (io), AF14 IO_L74N_4 (io), AF15 IO_L74P_4 (io), AF16 IO_L94N_4/VREF_4 (io), AG7 IO_L02P_4/D1 (io), AG8 IO_L25N_4 (io), AG9 IO_L25P_4 (io), AG10 IO_L50N_4 (io), AG11 IO_L50P_4 (io), AG12 IO_L68N_4 (io), AG13 IO_L68P_4 (io), AG14 IO_L92N_4 (io), AG15 IO_L92P_4 (io), AG16 IO_L94P_4 (io), AH6 IO_L06N_4 (io), AH7 IO_L06P_4 (io), AH8 IO_L27N_4 (io), AH9 IO_L27P_4/VREF_4 (io), AH11 IO_L54N_4 (io), AH12 IO_L54P_4 (io), AH13 IO_L77N_4 (io), AH14 IO_L77P_4 (io), AH15 IO_L96N_4/GCLK1S (io), AJ5 IO_L03P_4/D3/ALT_VRN_4 (io), AJ6 IO_L23N_4 (io), AJ7 VCCO_4 (power), AJ8 IO_L23P_4 (io), AJ9 IO_L30N_4 (io), AJ10 IO_L30P_4 (io), AJ11 IO_L71N_4 (io), AJ12 IO_L71P_4 (io), AJ13 IO_L78N_4 (io), AJ14 VCCO_4 (power), AJ15 IO_L96P_4/GCLK0P (io), AK3 IO_L03N_4/D2/ALT_VRP_4 (io), AK4 IO_L05N_4/VRP_4 (io), AK5 IO_L05P_4/VRN_4 (io), AK6 IO_L24N_4 (io), AK7 IO_L24P_4 (io), AK9 IO_L53N_4 (io), AK10 IO_L53P_4 (io), AK11 IO_L72N_4 (io), AK12 IO_L72P_4 (io), AK13 IO_L78P_4 (io), AK14 IO_L93N_4 (io), AK15 IO_L93P_4 (io), AL4 IO_L21N_4 (io), AL5 IO_L21P_4/VREF_4 (io), AL6 IO_L29N_4 (io), AL7 IO_L29P_4 (io), AL8 IO_L51N_4 (io), AL9 IO_L51P_4/VREF_4 (io), AL10 IO_L69N_4 (io), AL11 IO_L69P_4/VREF_4 (io), AL12 IO_L75N_4 (io), AL13 IO_L75P_4/VREF_4 (io), AL14 IO_L95N_4/GCLK3S (io), AL15 IO_L95P_4/GCLK2P (io), Y13 VCCO_4 (power), Y14 VCCO_4 (power), Y15 VCCO_4 (power)
part F pins: AA17 VCCO_5 (power), AA18 VCCO_5 (power), AA19 VCCO_5 (power), AA20 VCCO_5 (power), AB18 IO_L77P_5 (io), AB19 IO_L53N_5 (io), AB20 IO_L53P_5 (io), AB21 IO_L20N_5 (io), AC17 IO_L77N_5 (io), AC18 IO_L74N_5 (io), AC19 IO_L74P_5 (io), AC20 IO_L29N_5 (io), AC21 IO_L29P_5 (io), AC22 IO_L20P_5 (io), AD16 IO_L95N_5/GCLK5S (io), AD17 IO_L95P_5/GCLK4P (io), AD18 VCCO_5 (power), AD19 IO_L68N_5 (io), AD20 IO_L68P_5 (io), AD21 IO_L26N_5 (io), AD22 IO_L26P_5 (io), AD23 IO_L05N_5/VRP_5 (io), AE17 IO_L92N_5 (io), AE18 IO_L92P_5 (io), AE20 IO_L50N_5 (io), AE21 IO_L50P_5 (io), AE22 IO_L23N_5 (io), AE23 IO_L23P_5 (io), AE24 IO_L05P_5/VRN_5 (io), AF17 IO_L93P_5 (io), AF18 IO_L71N_5 (io), AF19 IO_L71P_5 (io), AF20 IO_L51N_5/VREF_5 (io), AF21 IO_L51P_5 (io), AF22 VCCO_5 (power), AF23 IO_L03N_5/D4/ALT_VRP_5 (io), AF24 IO_L03P_5/D5/ALT_VRN_5 (io), AF25 IO_L02P_5/D7 (io), AG17 IO_L93N_5 (io), AG18 IO_L72N_5 (io), AG19 IO_L72P_5 (io), AG20 IO_L54N_5 (io), AG21 IO_L54P_5 (io), AG22 IO_L24N_5 (io), AG23 IO_L24P_5 (io), AG24 IO_L02N_5/D6 (io), AG25 IO_L21P_5 (io), AH17 IO_L96P_5/GCLK6P (io), AH18 IO_L76N_5 (io), AH19 IO_L76P_5 (io), AH20 IO_L69N_5/VREF_5 (io), AH21 IO_L69P_5 (io), AH23 IO_L25N_5 (io), AH24 IO_L25P_5 (io), AH25 IO_L21N_5/VREF_5 (io), AH26 IO_L04P_5/VREF_5 (io), AJ16 IO_L96N_5/GCLK7S (io), AJ17 IO_L91P_5/VREF_5 (io), AJ18 VCCO_5 (power), AJ19 IO_L73N_5 (io), AJ20 IO_L73P_5 (io), AJ21 IO_L52N_5 (io), AJ22 IO_L52P_5 (io), AJ23 IO_L30N_5 (io), AJ24 IO_L30P_5 (io), AJ25 VCCO_5 (power), AJ26 IO_L04N_5 (io), AJ27 IO_L06P_5 (io), AK17 IO_L91N_5 (io), AK18 IO_L78N_5 (io), AK19 IO_L78P_5 (io), AK20 IO_L70N_5 (io), AK21 IO_L70P_5 (io), AK22 IO_L49N_5 (io), AK23 IO_L49P_5 (io), AK25 IO_L22N_5 (io), AK26 IO_L22P_5 (io), AK27 IO_L06N_5 (io), AK28 IO_L01N_5/RDWR_B (io), AK29 IO_L01P_5/CS_B (io), AL17 IO_L94N_5 (io), AL18 IO_L94P_5/VREF_5 (io), AL19 IO_L75N_5/VREF_5 (io), AL20 IO_L75P_5 (io), AL21 IO_L67N_5 (io), AL22 IO_L67P_5 (io), AL23 IO_L28N_5 (io), AL24 IO_L28P_5 (io), AL25 IO_L27N_5/VREF_5 (io), AL26 IO_L27P_5 (io), AL27 IO_L19N_5 (io), AL28 IO_L19P_5 (io), Y17 VCCO_5 (power), Y18 VCCO_5 (power), Y19 VCCO_5 (power)
part G pins: AA22 IO_L19P_6 (io), AA23 IO_L44P_6 (io), AA24 IO_L25N_6 (io), AA25 IO_L48P_6 (io), AA26 IO_L51P_6 (io), AA27 IO_L50N_6 (io), AA28 IO_L46N_6 (io), AA29 IO_L70P_6 (io), AA30 IO_L67N_6 (io), AA31 IO_L69N_6/VREF_6 (io), AB22 IO_L04P_6 (io), AB23 IO_L04N_6 (io), AB24 IO_L25P_6 (io), AB25 IO_L27N_6/VREF_6 (io), AB26 VCCO_6 (power), AB27 IO_L50P_6 (io), AB29 IO_L49N_6 (io), AB30 IO_L67P_6 (io), AB31 IO_L69P_6 (io), AC24 IO_L20N_6 (io), AC25 IO_L27P_6 (io), AC26 IO_L22N_6 (io), AC27 IO_L47N_6 (io), AC28 IO_L46P_6 (io), AC29 IO_L49P_6 (io), AC30 IO_L45N_6/VREF_6 (io), AC31 IO_L52N_6 (io), AD25 IO_L20P_6 (io), AD26 IO_L22P_6 (io), AD27 IO_L47P_6 (io), AD28 IO_L24N_6 (io), AD29 IO_L23N_6 (io), AD31 IO_L52P_6 (io), AE26 IO_L02P_6/VRN_6 (io), AE27 IO_L02N_6/VRP_6 (io), AE28 IO_L24P_6 (io), AE29 VCCO_6 (power), AE30 IO_L45P_6 (io), AE31 IO_L43N_6 (io), AF27 IO_L01P_6 (io), AF28 IO_L01N_6 (io), AF29 IO_L23P_6 (io), AF30 IO_L21N_6/VREF_6 (io), AF31 IO_L43P_6 (io), AG28 IO_L05P_6 (io), AG29 IO_L05N_6 (io), AG30 IO_L21P_6 (io), AG31 IO_L06N_6 (io), AH29 IO_L03P_6 (io), AH30 IO_L03N_6/VREF_6 (io), AH31 IO_L06P_6 (io), T23 IO_L91N_6 (io), T24 IO_L94N_6 (io), T26 IO_L92N_6 (io), U20 VCCO_6 (power), U21 VCCO_6 (power), U23 IO_L91P_6 (io), U24 IO_L94P_6 (io), U25 IO_L72N_6 (io), U26 IO_L92P_6 (io), U27 IO_L77N_6 (io), U28 IO_L93N_6/VREF_6 (io), U29 IO_L78N_6 (io), U30 IO_L95N_6 (io), U31 IO_L96N_6 (io), V20 VCCO_6 (power), V21 VCCO_6 (power), V22 IO_L53N_6 (io), V23 IO_L74N_6 (io), V24 VCCO_6 (power), V25 IO_L72P_6 (io), V26 IO_L68N_6 (io), V27 IO_L77P_6 (io), V28 IO_L93P_6 (io), V29 VCCO_6 (power), V30 IO_L95P_6 (io), V31 IO_L96P_6 (io), W20 VCCO_6 (power), W21 VCCO_6 (power), W22 IO_L53P_6 (io), W23 IO_L74P_6 (io), W24 IO_L71N_6 (io), W26 IO_L68P_6 (io), W27 IO_L54N_6 (io), W28 IO_L73N_6 (io), W29 IO_L78P_6 (io), W30 IO_L75N_6/VREF_6 (io), W31 IO_L76N_6 (io), Y21 VCCO_6 (power), Y22 IO_L19N_6 (io), Y23 IO_L44N_6 (io), Y24 IO_L71P_6 (io), Y25 IO_L48N_6 (io), Y26 IO_L51N_6/VREF_6 (io), Y27 IO_L54P_6 (io), Y28 IO_L73P_6 (io), Y29 IO_L70N_6 (io), Y30 IO_L75P_6 (io), Y31 IO_L76P_6 (io)
part H pins: D29 IO_L01N_7 (io), D30 IO_L01P_7 (io), D31 IO_L19N_7 (io), E28 IO_L06N_7 (io), E29 IO_L04N_7 (io), E30 IO_L24N_7 (io), E31 IO_L19P_7 (io), F27 IO_L02N_7/VRP_7 (io), F28 IO_L06P_7 (io), F29 IO_L04P_7 (io), F30 IO_L24P_7 (io), F31 IO_L25N_7 (io), G26 IO_L02P_7/VRN_7 (io), G27 IO_L21N_7 (io), G28 IO_L22N_7 (io), G29 VCCO_7 (power), G30 IO_L44N_7 (io), G31 IO_L25P_7 (io), H25 IO_L03N_7 (io), H26 IO_L03P_7/VREF_7 (io), H27 IO_L21P_7/VREF_7 (io), H28 IO_L22P_7 (io), H29 IO_L46N_7 (io), H31 IO_L47N_7 (io), J24 IO_L20N_7 (io), J25 IO_L23N_7 (io), J26 IO_L48N_7 (io), J27 IO_L43N_7 (io), J28 IO_L52N_7 (io), J29 IO_L46P_7 (io), J30 IO_L44P_7 (io), J31 IO_L47P_7 (io), K21 IO_L05N_7 (io), K22 IO_L05P_7 (io), K23 IO_L27N_7 (io), K24 IO_L20P_7 (io), K25 IO_L23P_7 (io), K26 VCCO_7 (power), K27 IO_L43P_7 (io), K29 IO_L50N_7 (io), K30 IO_L53N_7 (io), K31 IO_L68N_7 (io), L22 IO_L45N_7 (io), L23 IO_L27P_7/VREF_7 (io), L24 IO_L51N_7 (io), L25 IO_L49N_7 (io), L26 IO_L48P_7 (io), L27 IO_L67N_7 (io), L28 IO_L52P_7 (io), L29 IO_L50P_7 (io), L30 IO_L53P_7 (io), L31 IO_L68P_7 (io), M21 VCCO_7 (power), M22 IO_L45P_7/VREF_7 (io), M23 IO_L54N_7 (io), M24 IO_L51P_7/VREF_7 (io), M25 IO_L49P_7 (io), M26 IO_L69N_7 (io), M27 IO_L67P_7 (io), M28 IO_L70N_7 (io), M29 IO_L71N_7 (io), M30 IO_L74N_7 (io), M31 IO_L76N_7 (io), N20 VCCO_7 (power), N21 VCCO_7 (power), N22 IO_L72N_7 (io), N23 IO_L54P_7 (io), N24 IO_L95N_7 (io), N26 IO_L69P_7/VREF_7 (io), N27 IO_L73N_7 (io), N28 IO_L70P_7 (io), N29 IO_L71P_7 (io), N30 IO_L74P_7 (io), N31 IO_L76P_7 (io), P20 VCCO_7 (power), P21 VCCO_7 (power), P22 IO_L72P_7 (io), P23 IO_L75N_7 (io), P24 VCCO_7 (power), P25 IO_L78N_7 (io), P26 IO_L92N_7 (io), P27 IO_L73P_7 (io), P28 IO_L77N_7 (io), P29 VCCO_7 (power), P30 IO_L91N_7 (io), P31 IO_L93N_7 (io), R20 VCCO_7 (power), R21 VCCO_7 (power), R23 IO_L75P_7/VREF_7 (io), R24 IO_L95P_7 (io), R25 IO_L78P_7 (io), R26 IO_L92P_7 (io), R27 IO_L96N_7 (io), R28 IO_L77P_7 (io), R29 IO_L94N_7 (io), R30 IO_L91P_7 (io), R31 IO_L93P_7/VREF_7 (io), T27 IO_L96P_7 (io), T29 IO_L94P_7 (io)
part I pins: AA11 VCCINT (power), AA16 VCCINT (power), AA21 VCCINT (power), AB15 VCCINT (power), AB17 VCCINT (power), AG6 DONE (io), AG26 M2 (in), AH5 PWRDWN_B (in), AH27 M0 (in), AJ2 VCCAUX (power), AJ4 CCLK (io), AJ28 M1 (in), AJ30 VCCAUX (power), AK16 VCCAUX (power), B4 RSVD, B16 VCCAUX (power), B28 DXP, C2 VCCAUX (power), C4 TDO (out), C28 TDI (in), C30 VCCAUX (power), D5 VBATT (power), D27 PROG_B (in), E26 HSWAP_EN (in), F25 DXN, J10 TMS (in), K11 TCK (in), K15 VCCINT (power), K17 VCCINT (power), L11 VCCINT (power), L16 VCCINT (power), L21 VCCINT (power), M12 VCCINT (power), M16 VCCINT (power), M20 VCCINT (power), N13 VCCINT (power), N14 VCCINT (power), N15 VCCINT (power), N16 VCCINT (power), N17 VCCINT (power), N18 VCCINT (power), N19 VCCINT (power), P13 VCCINT (power), P19 VCCINT (power), R10 VCCINT (power), R13 VCCINT (power), R19 VCCINT (power), R22 VCCINT (power), T2 VCCAUX (power), T11 VCCINT (power), T12 VCCINT (power), T13 VCCINT (power), T19 VCCINT (power), T20 VCCINT (power), T21 VCCINT (power), T30 VCCAUX (power), U10 VCCINT (power), U13 VCCINT (power), U19 VCCINT (power), U22 VCCINT (power), V13 VCCINT (power), V19 VCCINT (power), W13 VCCINT (power), W14 VCCINT (power), W15 VCCINT (power), W16 VCCINT (power), W17 VCCINT (power), W18 VCCINT (power), W19 VCCINT (power), Y12 VCCINT (power), Y16 VCCINT (power), Y20 VCCINT (power)
part J pins: A2 GND (power), A3 GND (power), A16 GND (power), A29 GND (power), A30 GND (power), AB4 GND (power), AB16 GND (power), AB28 GND (power), AC9 GND (power), AC23 GND (power), AD2 GND (power), AD8 GND (power), AD24 GND (power), AD30 GND (power), AE7 GND (power), AE13 GND (power), AE16 GND (power), AE19 GND (power), AE25 GND (power), AF6 GND (power), AF26 GND (power), AG5 GND (power), AG27 GND (power), AH4 GND (power), AH10 GND (power), AH16 GND (power), AH22 GND (power), AH28 GND (power), AJ1 GND (power), AJ3 GND (power), AJ29 GND (power), AJ31 GND (power), AK1 GND (power), AK2 GND (power), AK8 GND (power), AK24 GND (power), AK30 GND (power), AK31 GND (power), AL2 GND (power), AL3 GND (power), AL16 GND (power), AL29 GND (power), AL30 GND (power), B1 GND (power), B2 GND (power), B8 GND (power), B24 GND (power), B30 GND (power), B31 GND (power), C1 GND (power), C3 GND (power), C29 GND (power), C31 GND (power), D4 GND (power), D10 GND (power), D16 GND (power), D22 GND (power), D28 GND (power), E5 GND (power), E27 GND (power), F6 GND (power), F26 GND (power), G7 GND (power), G13 GND (power), G16 GND (power), G19 GND (power), G25 GND (power), H2 GND (power), H8 GND (power), H24 GND (power), H30 GND (power), J9 GND (power), J23 GND (power), K4 GND (power), K16 GND (power), K28 GND (power), N7 GND (power), N25 GND (power), P14 GND (power), P15 GND (power), P16 GND (power), P17 GND (power), P18 GND (power), R14 GND (power), R15 GND (power), R16 GND (power), R17 GND (power), R18 GND (power), T1 GND (power), T4 GND (power), T7 GND (power), T10 GND (power), T14 GND (power), T15 GND (power), T16 GND (power), T17 GND (power), T18 GND (power), T22 GND (power), T25 GND (power), T28 GND (power), T31 GND (power), U14 GND (power), U15 GND (power), U16 GND (power), U17 GND (power), U18 GND (power), V14 GND (power), V15 GND (power), V16 GND (power), V17 GND (power), V18 GND (power), W7 GND (power), W25 GND (power)
part A text: Bank 0
part B text: Bank 1
part C text: Bank 2
part D text: Bank 3
part E text: Bank 4
part F text: Bank 5
part G text: Bank 6
part H text: Bank 7

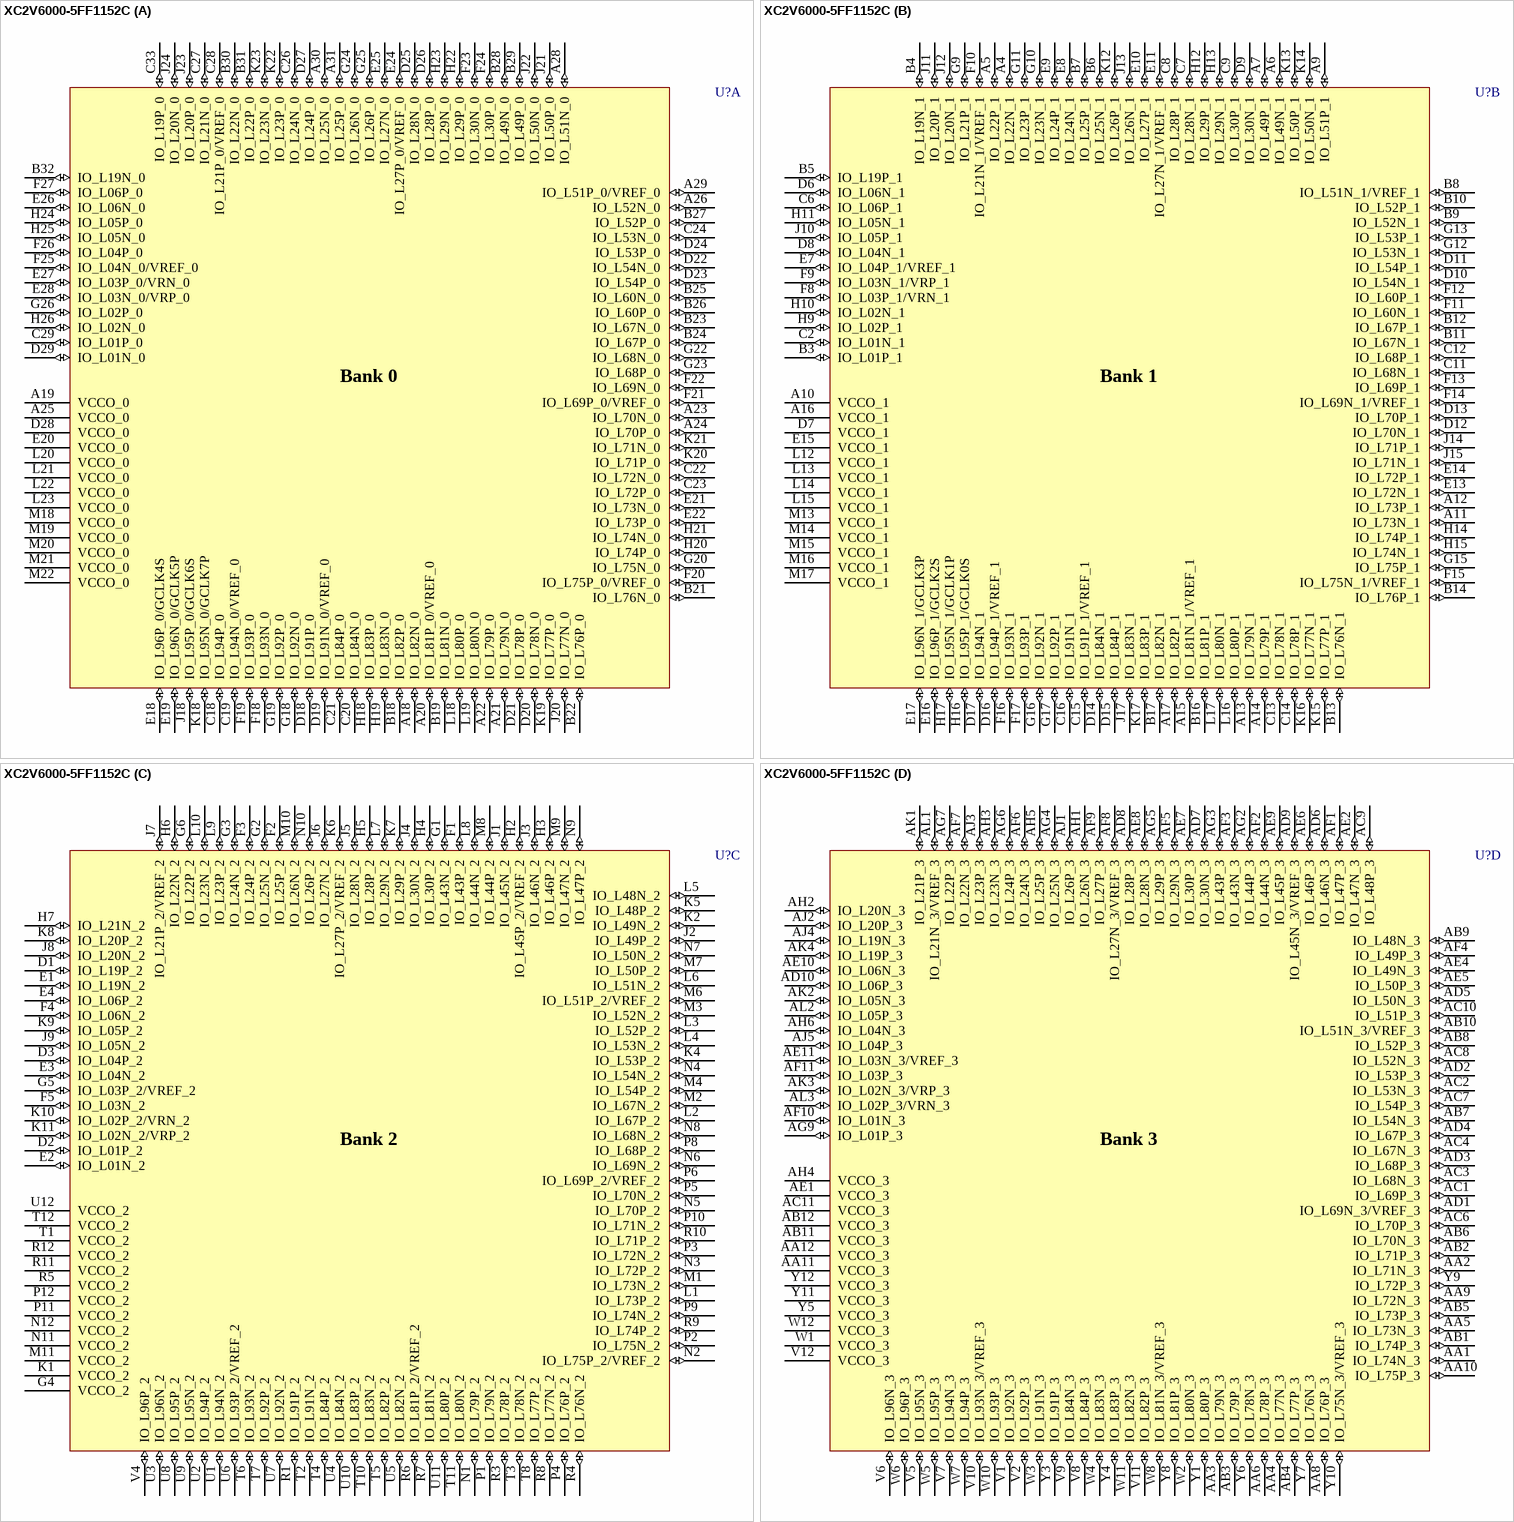
[diagram p398: symbol XC2V6000-5FF1152C]

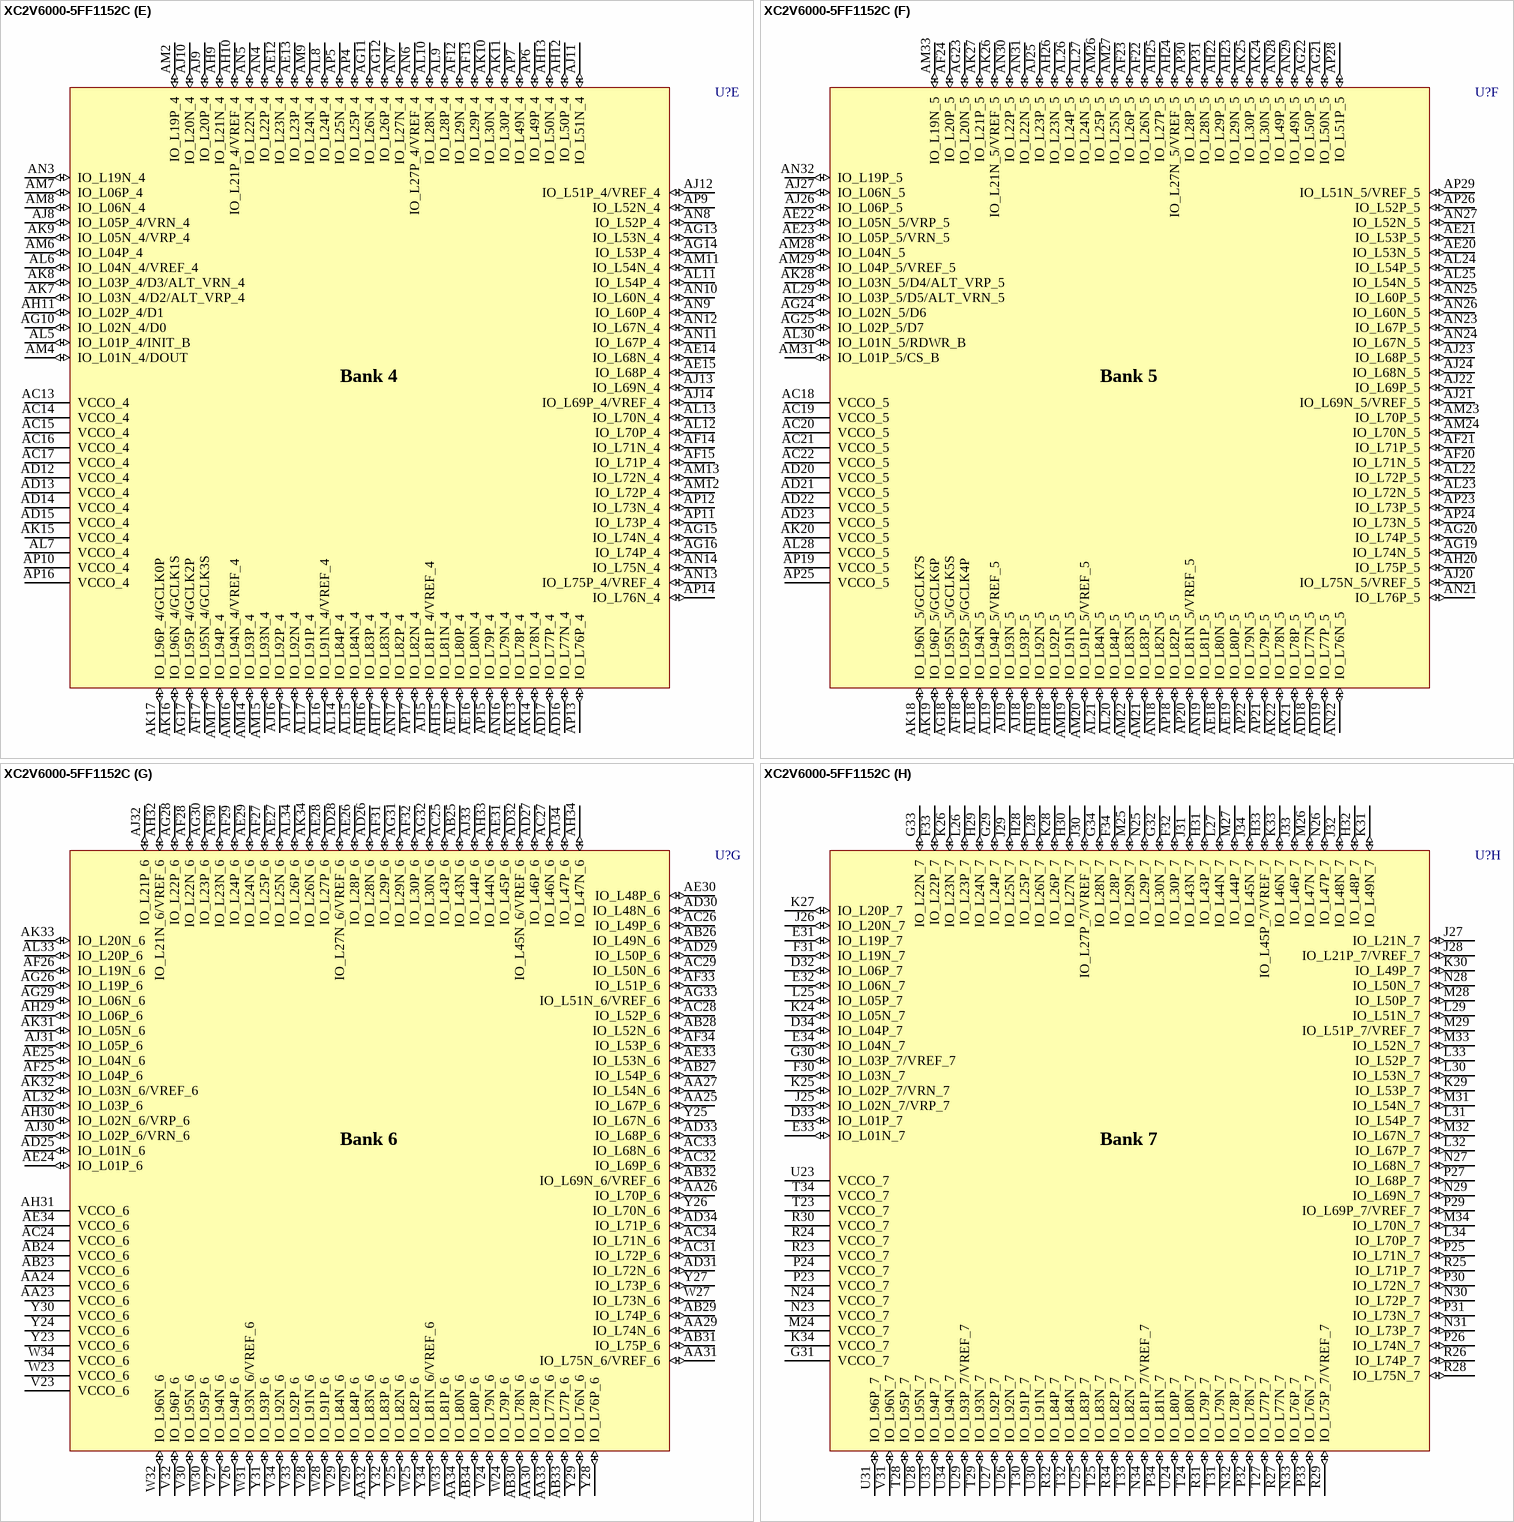
[diagram p399: symbol XC2V6000-5FF1152C]